# EAGLE library part DF40C-10DS-0.4V(51) (library con-hirose-dfc)
RECEPTACAL
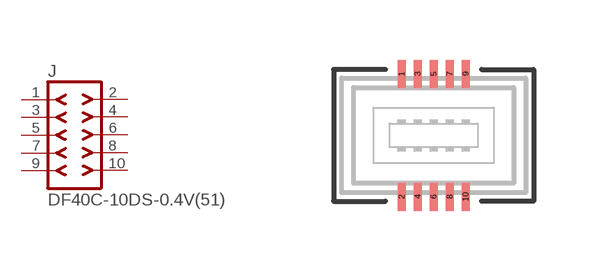
[diagram p1: symbol with the pads of DF40C-10DS-0.4V(51); footprint DF40C-10DS-0.4V(51)]

Designator prefix J

## DF40C-10DS-0.4V(51) (P1I: o)  [DF40C-10DS-0.4V(51)]
1  1  pas
2  2  pas
3  3  pas
4  4  pas
5  5  pas
6  6  pas
7  7  pas
8  8  pas
9  9  pas
10  10  pas

## Footprint DF40C-10DS-0.4V(51) (pad centres in mm)
RECEPTACAL
smd 0.2 x 0.7: 1 -0.8,1.54; 2 -0.8,-1.54; 3 -0.4,1.54; 4 -0.4,-1.54; 5 0,1.54; 6 0,-1.54; 7 0.4,1.54; 8 0.4,-1.54; 9 0.8,1.54; 10 0.8,-1.54